# EAGLE library part TRANSFORMER_749010013 (library HyTechDevices2)
Wurth Electronics Midcom 749010013 10/100BaseTX Ethernet Transformer Datasheet <http://www.mouser.com/ds/2/445/749010013-311000.pdf> Mouser Page <http://www.mouser.com/ProductDetail/Wurth-Electronics-Midcom/749010013/?qs=40TFAHZMFvcjCZphxWYgVw%3D%3D>
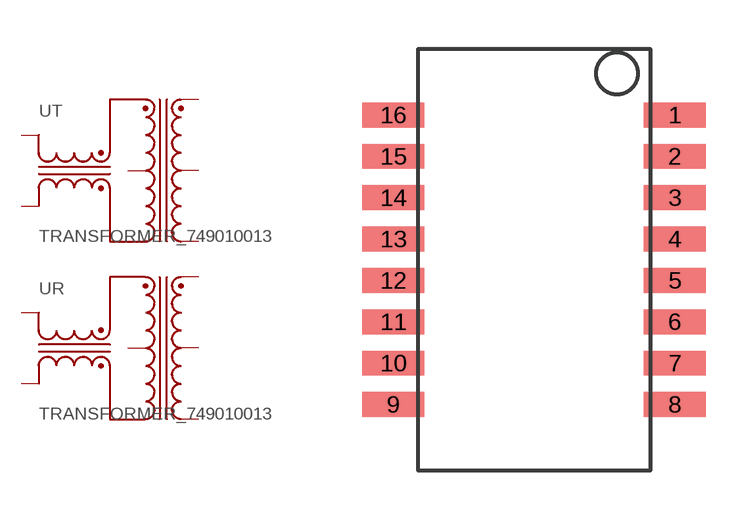
[diagram p35: symbol with the pads of 749010013; footprint 749010013]

Designator prefix -; gates T=TRANSFORMER R=TRANSFORMER

## TRANSFORMER_749010013  [749010013]
1  T:D+  pas
2  T:CD  pas
3  T:D-  pas
6  R:D+  pas
7  R:CD  pas
8  R:D-  pas
9  R:X-  pas
10  R:CX  pas
11  R:X+  pas
14  T:X-  pas
15  T:CX  pas
16  T:X+  pas

## Footprint 749010013 (pad centres in mm)
smd 1.905 x 0.762: 1 4.318,4.445; 2 4.318,3.175; 3 4.318,1.905; 4 4.318,0.635; 5 4.318,-0.635; 6 4.318,-1.905; 7 4.318,-3.175; 8 4.318,-4.445; 9 -4.318,-4.445; 10 -4.318,-3.175; 11 -4.318,-1.905; 12 -4.318,-0.635; 13 -4.318,0.635; 14 -4.318,1.905; 15 -4.318,3.175; 16 -4.318,4.445